# Altium footprint library WSON-8_6x8_NoTH.PcbLib: 1 footprints
Each footprint in its own frame and in the unit in brackets; x right, y up, seen from the top. Pads: shape width x height; smd on the part's side, far side on the other; paste and mask are expansions set on the pad; w line width, h text height; cw(c..) or ccw(c..) is an arc to the next point about the centre after c.
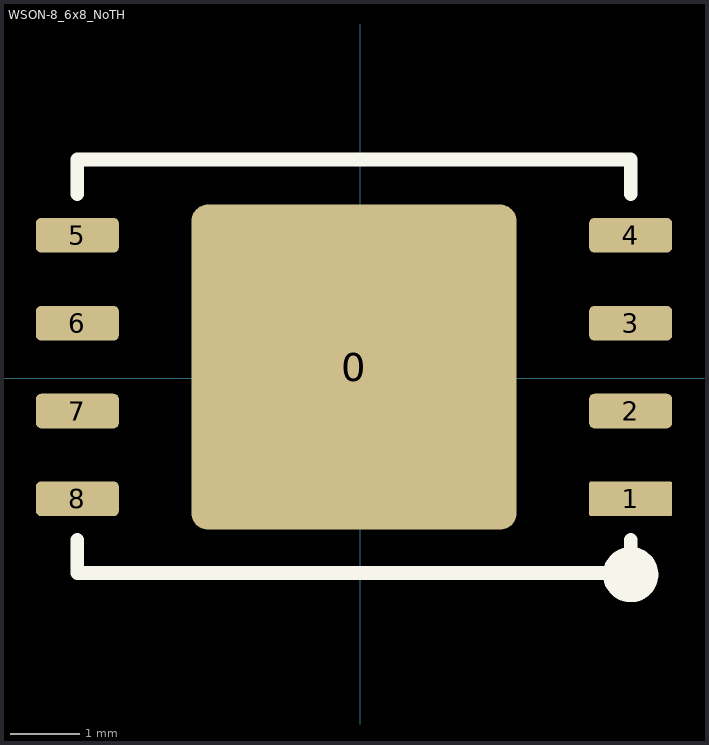
[diagram p0: the footprint, top view; thin cyan lines are the x and y axes]

## WSON-8_6x8_NoTH [mm] "SON, 8-Leads, Body 6,00x8,00mm, Pitch 1,27mm, Thermal Pad 4,80x4,65mm, IPC Medium Density"
height 0.8
pads (9):
  rrect10% 4.7x4.7 smd: 0(-0.09,0.158)
  rrect10% 1.2x0.5 smd: 1(3.91,-1.747)
  rrect30% 1.2x0.5 smd: 2(3.91,-0.477) 3(3.91,0.793) 4(3.91,2.063) 5(-4.09,2.063) 6(-4.09,0.793) 7(-4.09,-0.477) 8(-4.09,-1.747)
Top Overlay:
  circle w0.4: c3.91,-2.842 r0.2
  lines w0.2: -4.09,-2.342 -4.09,-2.817 3.91,-2.817 3.91,-2.342 ; -4.09,2.658 -4.09,3.158 3.91,3.158 3.91,2.658
3D body "User Library-WSON-8_6x8mm.STEP": height 0.81, standoff -0.07, extent -4.09,-2.842 3.91,3.158